# Altium footprint library Surface Mount.PcbLib: 37 footprints (part 2 of 3)
Each footprint in its own frame and in the unit in brackets; x right, y up, seen from the top. Pads: shape width x height; smd on the part's side, far side on the other; paste and mask are expansions set on the pad; w line width, h text height; cw(c..) or ccw(c..) is an arc to the next point about the centre after c.
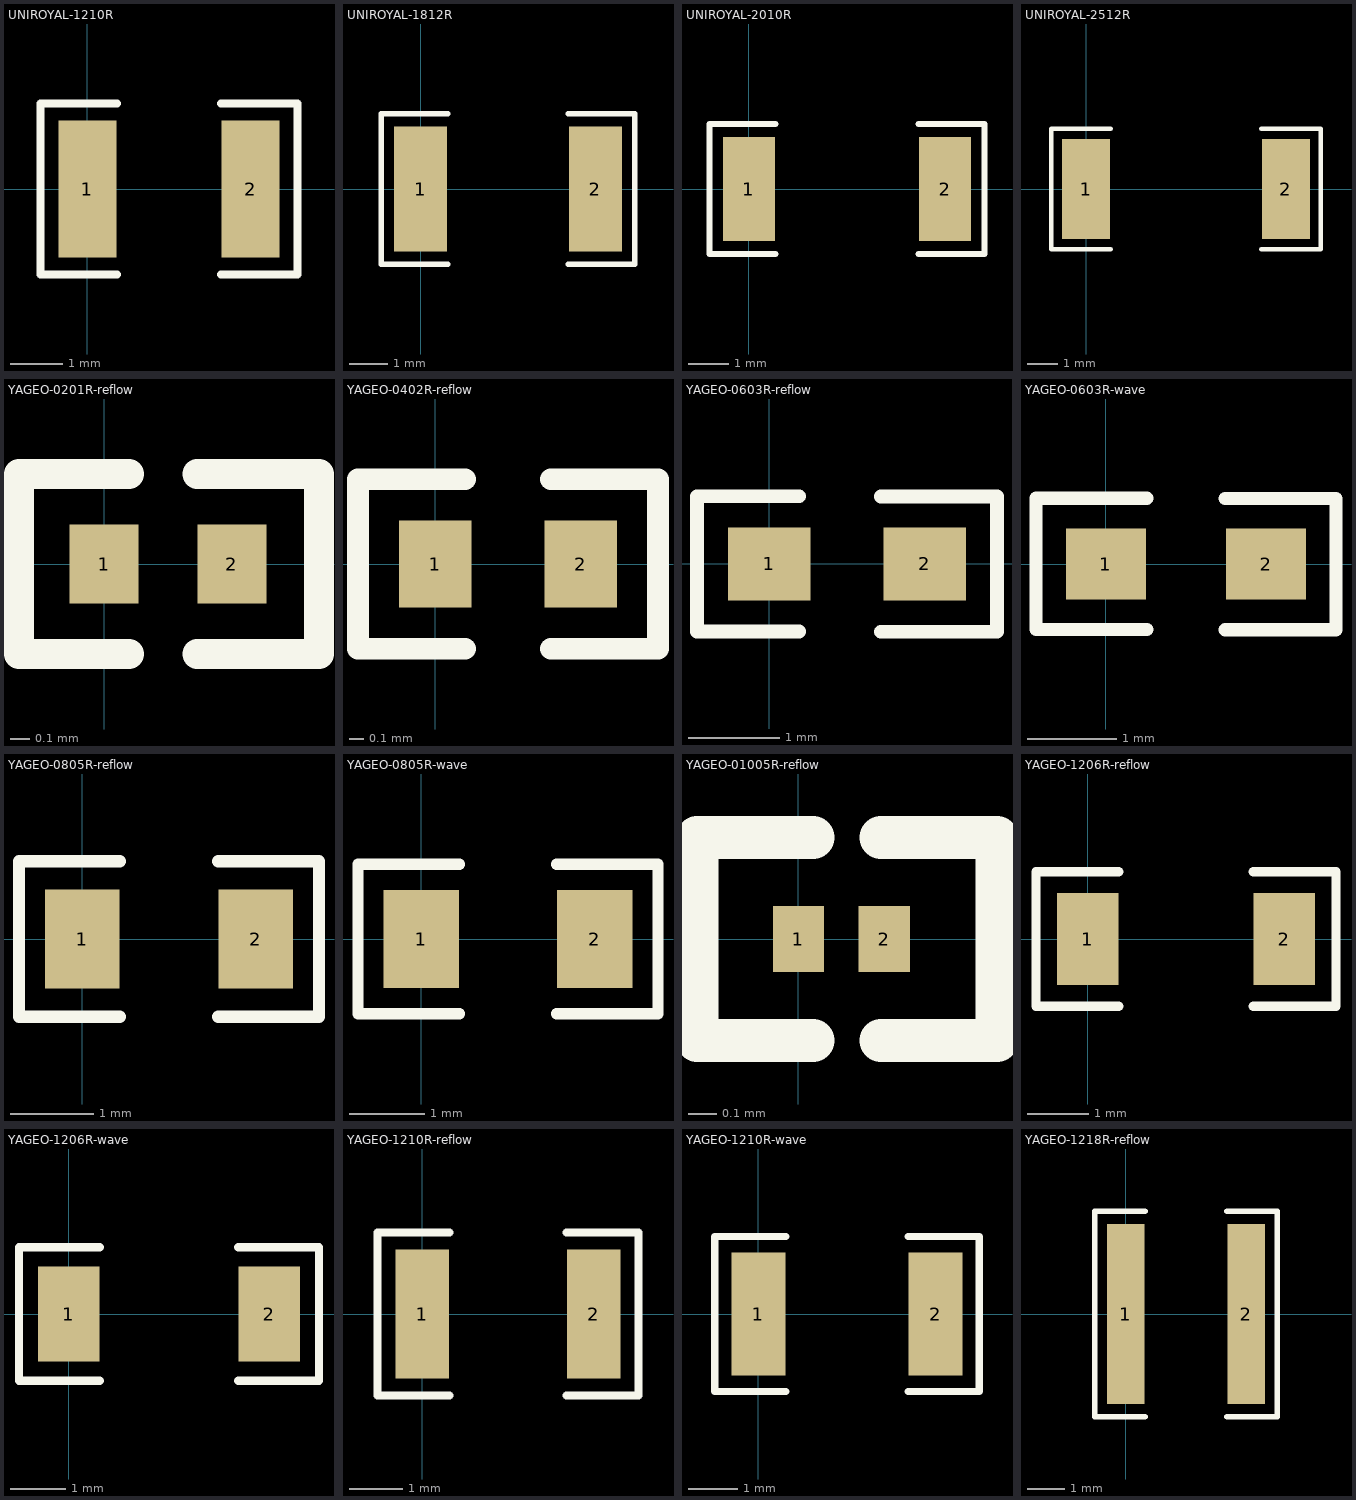
[diagram p1: the footprints below, top view; thin cyan lines are the x and y axes]

## UNIROYAL-1210R [mm] "UNI-ROYAL(厚声)数据手册中推荐的1210贴片电阻封装"
pads (2):
  rect 1.1x2.6 smd: 1(0,0) 2(3.1,0)
Top Overlay:
  lines w0.15: 0.559,-1.626 -0.889,-1.626 -0.889,1.626 0.559,1.626 ; 2.541,-1.626 3.989,-1.626 3.989,1.626 2.541,1.626
3D body "SMD RESISTOR 1210.step": height 0.7, standoff 0.1, extent -0.05,-1.25 3.15,1.25

## UNIROYAL-1812R [mm] "UNI-ROYAL(厚声)数据手册中推荐的1812贴片电阻封装"
pads (2):
  rect 1.4x3.3 smd: 1(0,0) 2(4.6,0)
Top Overlay:
  lines w0.15: 0.711,-1.981 -1.041,-1.981 -1.041,1.981 0.711,1.981 ; 3.889,-1.981 5.641,-1.981 5.641,1.981 3.889,1.981
3D body "SMD RESISTOR 1812.step": height 0.72, standoff 0.12, extent 0.05,-1.6 4.55,1.6

## UNIROYAL-2010R [mm] "UNI-ROYAL(厚声)数据手册中推荐的2010贴片电阻封装"
pads (2):
  rect 1.3x2.6 smd: 1(0,0) 2(4.9,0)
Top Overlay:
  lines w0.15: 0.66,-1.626 -0.991,-1.626 -0.991,1.626 0.66,1.626 ; 4.24,-1.626 5.891,-1.626 5.891,1.626 4.24,1.626
3D body "SMD RESISTOR 2010.step": height 0.73, standoff 0.13, extent -0.05,-1.25 4.95,1.25

## UNIROYAL-2512R [mm] "UNI-ROYAL(厚声)数据手册中推荐的2512贴片电阻封装"
pads (2):
  rect 1.6x3.3 smd: 1(0,0) 2(6.6,0)
Top Overlay:
  lines w0.15: 0.813,-1.981 -1.143,-1.981 -1.143,1.981 0.813,1.981 ; 5.787,-1.981 7.743,-1.981 7.743,1.981 5.787,1.981
3D body "SMD RESISTOR 2512.step": height 0.73, standoff 0.13, extent 0.1,-1.6 6.5,1.6

## YAGEO-0201R-reflow [mm] "YAGEO(国巨)数据手册中推荐的0201电阻的回流焊封装"
pads (2):
  rect 0.35x0.4 smd mask+0.03: 1(0,0) 2(0.65,0)
Top Overlay:
  lines w0.15: 0.127,-0.457 -0.432,-0.457 -0.432,0.457 0.127,0.457 ; 0.473,-0.457 1.092,-0.457 1.092,0.457 0.473,0.457
3D body "SMD RESISTOR 0201.step": height 0.3, standoff 0.06, extent 0.025,-0.15 0.625,0.15

## YAGEO-0402R-reflow [mm] "YAGEO(国巨)数据手册中推荐的0402电阻的回流焊封装"
pads (2):
  rect 0.5x0.6 smd mask+0.05: 1(0,0) 2(1,0)
Top Overlay:
  lines w0.15: 0.203,-0.584 -0.533,-0.584 -0.533,0.584 0.203,0.584 ; 0.797,-0.584 1.533,-0.584 1.533,0.584 0.797,0.584
3D body "SMD RESISTOR 0402.step": height 0.41, standoff 0.05, extent -0.025,-0.25 0.975,0.25

## YAGEO-0603R-reflow [mm] "YAGEO(国巨)数据手册中推荐的0603电阻的回流焊封装"
pads (2):
  rect 0.9x0.8 smd: 1(0,0) 2(1.7,0)
Top Overlay:
  lines w0.15: 0.33,-0.737 -0.787,-0.737 -0.787,0.739 0.33,0.739 ; 1.219,-0.739 2.489,-0.739 2.489,0.737 1.219,0.737
3D body "SMD RESISTOR 0603.step": height 0.51, standoff 0.05, extent 0.05,-0.4 1.65,0.4

## YAGEO-0603R-wave [mm] "YAGEO(国巨)数据手册中推荐的0603电阻的波峰焊封装"
pads (2):
  rect 0.9x0.8 smd: 1(0,0) 2(1.8,0)
Top Overlay:
  lines w0.15: 0.457,-0.737 -0.787,-0.737 -0.787,0.739 0.457,0.739 ; 1.343,-0.739 2.587,-0.739 2.587,0.737 1.343,0.737
3D body "SMD RESISTOR 0603.step": height 0.51, standoff 0.05, extent 0.1,-0.4 1.7,0.4

## YAGEO-0805R-reflow [mm] "YAGEO(国巨)数据手册中推荐的0805贴片电阻的回流焊封装"
pads (2):
  rect 0.9x1.2 smd: 1(0,0) 2(2.1,0)
Top Overlay:
  lines w0.15: 0.457,-0.94 -0.762,-0.94 -0.762,0.94 0.457,0.94 ; 1.643,-0.94 2.862,-0.94 2.862,0.94 1.643,0.94
3D body "SMD RESISTOR 0805.step": height 0.65, standoff 0.05, extent 0,-0.625 2,0.625

## YAGEO-0805R-wave [mm] "YAGEO(国巨)数据手册中推荐的0805贴片电阻的波峰焊封装"
pads (2):
  rect 1x1.3 smd: 1(0,0) 2(2.3,0)
Top Overlay:
  lines w0.15: 0.508,-0.991 -0.838,-0.991 -0.838,0.991 0.508,0.991 ; 1.792,-0.991 3.138,-0.991 3.138,0.991 1.792,0.991
3D body "SMD RESISTOR 0805.step": height 0.65, standoff 0.05, extent 0.15,-0.625 2.15,0.625

## YAGEO-01005R-reflow [mm] "YAGEO(国巨)数据手册中推荐的01005电阻的回流焊封装"
pads (2):
  rect 0.18x0.23 smd mask+0.02: 1(0,0) 2(0.3,0)
Top Overlay:
  lines w0.15: 0.051,-0.356 -0.356,-0.356 -0.356,0.356 0.051,0.356 ; 0.289,-0.356 0.696,-0.356 0.696,0.356 0.289,0.356
3D body "SMD RESISTOR 01005.step": height 0.15, standoff 0.01, extent -0.05,-0.1 0.35,0.1

## YAGEO-1206R-reflow [mm] "YAGEO(国巨)数据手册中推荐的1206贴片电阻的回流焊封装"
pads (2):
  rect 1x1.5 smd: 1(0,0) 2(3.2,0)
Top Overlay:
  lines w0.15: 0.508,-1.092 -0.838,-1.092 -0.838,1.092 0.508,1.092 ; 2.692,-1.092 4.038,-1.092 4.038,1.092 2.692,1.092
3D body "SMD RESISTOR 1206.step": height 0.7, standoff 0.1, extent 0,-0.8 3.2,0.8

## YAGEO-1206R-wave [mm] "YAGEO(国巨)数据手册中推荐的1206贴片电阻的波峰焊封装"
pads (2):
  rect 1.1x1.7 smd: 1(0,0) 2(3.6,0)
Top Overlay:
  lines w0.15: 0.559,-1.194 -0.889,-1.194 -0.889,1.194 0.559,1.194 ; 3.041,-1.194 4.489,-1.194 4.489,1.194 3.041,1.194
3D body "SMD RESISTOR 1206.step": height 0.7, standoff 0.1, extent 0.2,-0.8 3.4,0.8

## YAGEO-1210R-reflow [mm] "YAGEO(国巨)数据手册中推荐的1210贴片电阻的回流焊封装"
pads (2):
  rect 1x2.4 smd: 1(0,0) 2(3.2,0)
Top Overlay:
  lines w0.15: 0.508,-1.524 -0.838,-1.524 -0.838,1.524 0.508,1.524 ; 2.692,-1.524 4.038,-1.524 4.038,1.524 2.692,1.524
3D body "SMD RESISTOR 1210.step": height 0.7, standoff 0.1, extent 0,-1.25 3.2,1.25

## YAGEO-1210R-wave [mm] "YAGEO(国巨)数据手册中推荐的1210贴片电阻的波峰焊封装"
pads (2):
  rect 1.1x2.5 smd: 1(0,0) 2(3.6,0)
Top Overlay:
  lines w0.15: 0.559,-1.575 -0.889,-1.575 -0.889,1.575 0.559,1.575 ; 3.041,-1.575 4.489,-1.575 4.489,1.575 3.041,1.575
3D body "SMD RESISTOR 1210.step": height 0.7, standoff 0.1, extent 0.2,-1.25 3.4,1.25

## YAGEO-1218R-reflow [mm] "YAGEO(国巨)数据手册中推荐的1218贴片电阻的回流焊封装"
pads (2):
  rect 1x4.8 smd: 1(0,0) 2(3.2,0)
Top Overlay:
  lines w0.15: 0.508,-2.743 -0.838,-2.743 -0.838,2.743 0.508,2.743 ; 2.692,-2.743 4.038,-2.743 4.038,2.743 2.692,2.743
3D body "SMD RESISTOR 1218.STEP": height 0.7, standoff 0.1, extent 0,-2.3 3.2,2.3